# Altium footprint library CP_RADIAL_D10.0_P5.0_H20.0.PcbLib: 1 footprints
Each footprint in its own frame and in the unit in brackets; x right, y up, seen from the top. Pads: shape width x height; smd on the part's side, far side on the other; paste and mask are expansions set on the pad; w line width, h text height; cw(c..) or ccw(c..) is an arc to the next point about the centre after c.
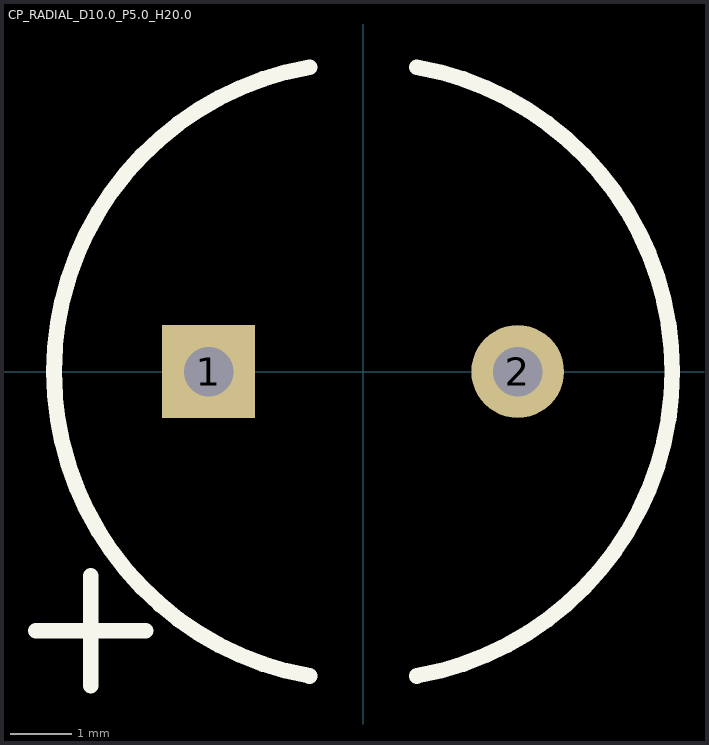
[diagram p0: the footprint, top view; thin cyan lines are the x and y axes]

## CP_RADIAL_D10.0_P5.0_H20.0 [mm] "2 Leaded Al Cap, 5mm spacing, 10mm diameter, 20mm Height"
height 20
pads (2):
  rect 1.5x1.5 hole 0.8: 1(-2.5,0)
  round 1.5 hole 0.8: 2(2.5,0)
Top Overlay:
  lines w0.254: -5.294,-4.191 -3.516,-4.191 ; -4.405,-5.08 -4.405,-3.302 ; -0.868,-4.924 cw(c0,0) -0.868,4.924 ; 0.868,-4.924 ccw(c0,0) 0.868,4.924
3D body: height 20, standoff 0, extent -4.96,-5 5.04,5